# EAGLE library part HD.1-12 (library pecs)
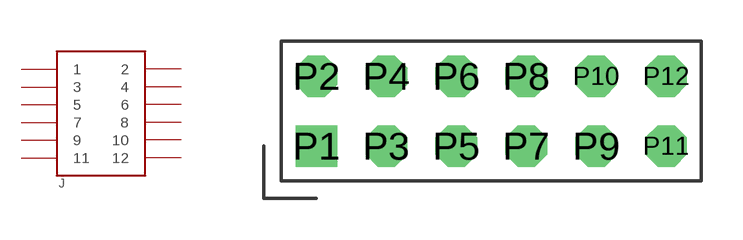
[diagram p9: symbol with the pads of HD.1-12; footprint HD.1-12]

Designator prefix J

## HD.1-12  [HD.1-12]
P1  1
P2  2
P3  3
P4  4
P5  5
P6  6
P7  7
P8  8
P9  9
P10  10
P11  11
P12  12

## Footprint HD.1-12 (pad centres in mm)
drill 1 square: P1 -6.35,-1.27
drill 1 octagon: P2 -6.35,1.27; P3 -3.81,-1.27; P4 -3.81,1.27; P5 -1.27,-1.27; P6 -1.27,1.27; P7 1.27,-1.27; P8 1.27,1.27; P9 3.81,-1.27; P10 3.81,1.27; P11 6.35,-1.27; P12 6.35,1.27